# Altium schematic symbol library OBDH_Ed01r1.SchLib: 15 symbols
Pins are listed as number, name and electrical type; pins without a type are passive.

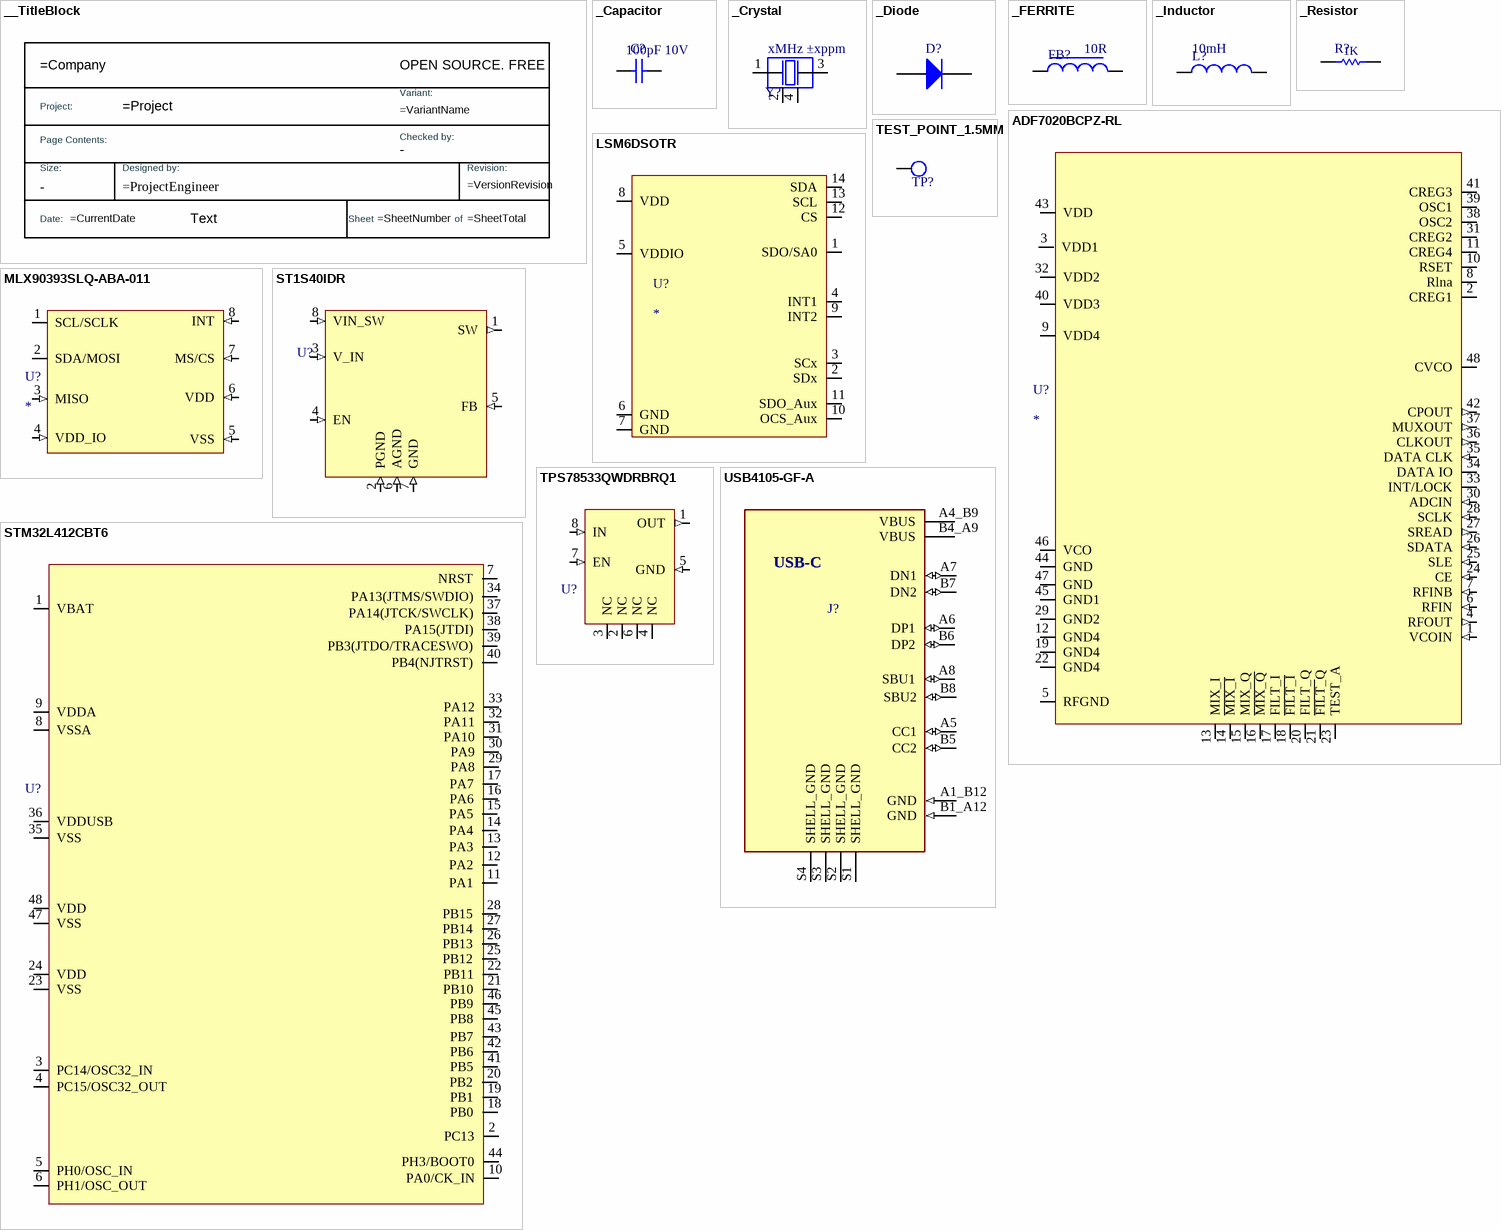
[diagram p0: symbols __TitleBlock to USB4105-GF-A]

## __TitleBlock
designator *  (value not drawn)  (graphical)
Standard Title Block; DWG NO: =ProjectEngineer; Size: -; Checked by: -
text: OPEN SOURCE. FREE; Project:; Variant:; Page Contents:; Checked by:; Size:; Designed by:; Revision:; Date:; Text; Sheet; of

## _Capacitor
designator C?  value 100pF 10V  (hidden comment: *)
Capacitor; Published: 8-Jun-2000; LatestRevisionDate: 17-Jul-2002; LatestRevisionNote: Re-released for DXP Platform.; PackageReference: RAD-0.3; Publisher: Altium Limited; PackageDescription: Radial Cap, Thru-Hole; 2 Leads; 0.3 in Pin Spacing
pins: 1, 2

## _Crystal
designator Y?  Valor: xMHz ±xppm  (hidden comment: *)
Crystal; Manufacturer: Diodes Incorporated; Manufacturer Part Number: FL2400022; Origem: MTER_Ed01r1; Case/Package: SMD; Observação: *
pins: 1, 2, 3, 4

## _Diode
designator D?  (value not drawn)
Default Diode; Published: 8-Jun-2000; LatestRevisionDate: 17-Jul-2002; LatestRevisionNote: Re-released for DXP Platform.; PackageVersion: Sep-1996; PackageReference: SMC; Publisher: Altium Limited; PackageDescription: DO-214-AB/SMC; 2 C-Bend Leads; Body 7.9 x 5.9 mm, inc. leads (LxW); Code_JEDEC: DO-214-AB
pins: 1 A, 2 K

## _FERRITE
designator FB?  value 10R  (hidden comment: *)
Ferrite Bead; Code_IEC: 1005; Published: 8-Jun-2000; LatestRevisionDate: 29-May-2009; LatestRevisionNote: IPC-7351 Footprint Added.; PackageReference: 0402-A; Publisher: Altium Limited; PackageDescription: Chip Inductor; Code_JEITA: 0402
pins: 1, 2

## _Inductor
designator L?  value 10mH  (hidden comment: *)
Inductor; Code_IEC: 1005; Published: 8-Jun-2000; LatestRevisionDate: 29-May-2009; LatestRevisionNote: IPC-7351 Footprint Added.; PackageReference: 0402-A; Publisher: Altium Limited; PackageDescription: Chip Inductor; Code_JEITA: 0402
pins: 1, 2

## _Resistor
designator R?  value 1K  (hidden comment: *)
Resistor; Published: 8-Jun-2000; LatestRevisionDate: 17-Jul-2002; LatestRevisionNote: Re-released for DXP Platform.; PackageReference: AXIAL-0.3; Publisher: Altium Limited; PackageDescription: Axial Device, Thru-Hole; 2 Leads; 0.3 in Pin Spacing
pins: 1, 2

## ADF7020BCPZ-RL
designator U?
IC RF TXRX ISM<1GHZ 48VFQFN; Manufacturer: Analog Devices Inc.; Manufacturer Part Number: ADF7020BCPZ-RL; Detailed Description: IC RF TxRx Only General ISM < 1GHz 431MHz ~ 478MHz, 862MHz ~ 956MHz 48-VFQFN Exposed Pad, CSP
pins: 1 VCOIN (in), 2 CREG1, 3 VDD1 (power), 4 RFOUT (out), 5 RFGND (power), 6 RFIN (in), 7 RFINB (in), 8 Rlna, 9 VDD4 (power), 10 RSET, 11 CREG4, 12 GND4 (power), 13 MIX_I (hiz), 14 ~{MIX_I} (hiz), 15 MIX_Q (hiz), 16 ~{MIX_Q} (hiz), 17 FILT_I (hiz), 18 ~{FILT_I} (hiz), 19 GND4 (power), 20 FILT_Q (hiz), 21 ~{FILT_}Q (hiz), 22 GND4 (power), 23 TEST_A (hiz), 24 CE (in), 25 SLE (in), 26 SDATA (in), 27 SREAD (out), 28 SCLK (in), 29 GND2 (power), 30 ADCIN (in), 31 CREG2, 32 VDD2 (power), 33 INT/LOCK (io), 34 DATA IO (io), 35 DATA CLK (in), 36 CLKOUT (out), 37 MUXOUT (out), 38 OSC2, 39 OSC1, 40 VDD3 (power), 41 CREG3, 42 CPOUT (out), 43 VDD (power), 44 GND (power), 45 GND1 (power), 46 VCO (power), 47 GND (power), 48 CVCO

## LSM6DSOTR
designator U?
Accelerometer, Gyroscope, 6 Axis Sensor I²C, SPI Output
pins: 1 SDO/SA0 (io), 2 SDx (io), 3 SCx (io), 4 INT1 (io), 5 VDDIO (power), 6 GND (power), 7 GND (power), 8 VDD (power), 9 INT2 (io), 10 OCS_Aux (io), 11 SDO_Aux (io), 12 CS (io), 13 SCL (io), 14 SDA (io)

## MLX90393SLQ-ABA-011
designator U?
IC MAGNOMETER SPI/I2C 8UTDFN
pins: 1 SCL/SCLK, 2 SDA/MOSI, 3 MISO (in), 4 VDD_IO (in), 5 VSS (in), 6 VDD (in), 7 MS/CS (in), 8 INT (in)

## ST1S40IDR
designator U?  (value not drawn)
IC REG BUCK ADJUSTABLE 3A 8SO
pins: 1 SW (out), 2 PGND (in), 3 V_IN (in), 4 EN (in), 5 FB (in), 6 AGND (in), 7 GND (in), 8 VIN_SW (in)

## STM32L412CBT6
designator U?  (value not drawn)
ARM® Cortex®-M4 STM32L4 Microcontroller IC 32-Bit Single-Core 80MHz 128KB (128K x 8) FLASH 48-LQFP (7x7)
footprint IC LQFP48 (NG3_ED03r1)
pins: 1 VBAT (power), 2 PC13 (io), 3 PC14/OSC32_IN (io), 4 PC15/OSC32_OUT (io), 5 PH0/OSC_IN (io), 6 PH1/OSC_OUT (io), 7 NRST (io), 8 VSSA (power), 9 VDDA (power), 10 PA0/CK_IN (io), 11 PA1 (io), 12 PA2 (io), 13 PA3 (io), 14 PA4 (io), 15 PA5 (io), 16 PA6 (io), 17 PA7 (io), 18 PB0 (io), 19 PB1 (io), 20 PB2 (io), 21 PB10 (io), 22 PB11 (io), 23 VSS (power), 24 VDD (power), 25 PB12 (io), 26 PB13 (io), 27 PB14 (io), 28 PB15 (io), 29 PA8 (io), 30 PA9 (io), 31 PA10 (io), 32 PA11 (io), 33 PA12 (io), 34 PA13(JTMS/SWDIO) (io), 35 VSS (power), 36 VDDUSB (power), 37 PA14(JTCK/SWCLK) (io), 38 PA15(JTDI) (io), 39 PB3(JTDO/TRACESWO) (io), 40 PB4(NJTRST) (io), 41 PB5 (io), 42 PB6 (io), 43 PB7 (io), 44 PH3/BOOT0 (io), 45 PB8 (io), 46 PB9 (io), 47 VSS (power), 48 VDD (power)

## TEST_POINT_1.5MM
designator TP?  (value not drawn)  (no BOM)
TEST_POINT; Manufacturer: V2COM; Origem: GT1021_ED02r2; Case/Package: SMD; Manufacturer Part Number: TEST_POINT; Observação: *; Valor: *
footprint TESTPOINT_1.5MM (GT1021_ED04R1)
pins: 1

## TPS78533QWDRBRQ1
designator U?  (value not drawn)
Linear Voltage Regulator IC Positive Fixed 1 Output 1A 8-SON (3x3)
pins: 1 OUT (out), 2 NC, 3 NC, 4 NC, 5 GND (in), 6 NC, 7 EN (in), 8 IN (in)

## USB4105-GF-A
designator J?  (value not drawn)
USB-C (USB TYPE-C) USB 2.0 Receptacle Connector 24 (16+8 Dummy) Position Surface Mount, Right Angle; Through Hole; MP: USB4105-GF-A; MF: GCT; Price: None; Availability: In Stock; Package: None; SnapEDA_Link: https://www.snapeda.com/parts/USB4105-GF-A/Global+Connector+Technology/view-part/?ref=snap; Check_prices: https://www.snapeda.com/parts/USB4105-GF-A/Global+Connector+Technology/view-part/?ref=eda; Value: *; Purchase-URL: https://pricing.snapeda.com/search/part/USB4105-GF-A/?ref=eda
footprint GCT_USB4105-GF-A
pins: A1_B12 GND (in), A4_B9 VBUS (power), A5 CC1 (io), A6 DP1 (io), A7 DN1 (io), A8 SBU1 (io), B1_A12 GND (in), B4_A9 VBUS (power), B5 CC2 (io), B6 DP2 (io), B7 DN2 (io), B8 SBU2 (io), S1 SHELL_GND (power), S2 SHELL_GND (power), S3 SHELL_GND (power), S4 SHELL_GND (power)
text: USB-C